# Altium schematic symbol library Thermistor - NTC.SchLib: 283 symbols (part 5 of 5)
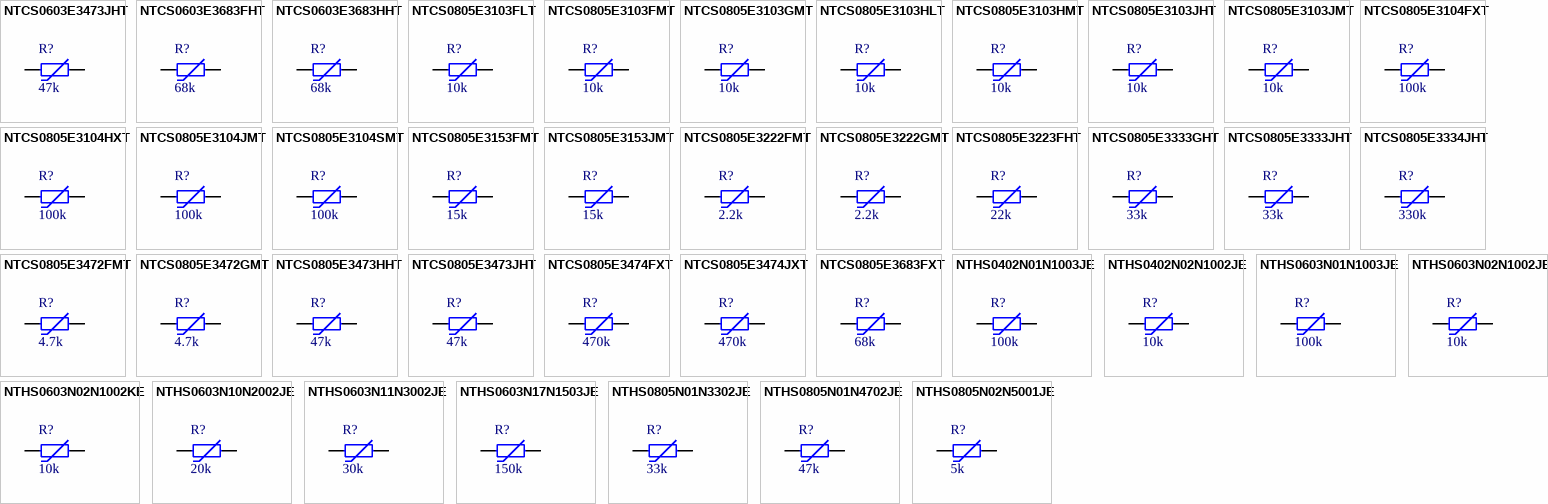
[diagram p11: symbols NTCS0603E3473JHT to NTHS0805N02N5001JE]

## NTCS0805E3223FHT
designator R?  Resistance in Ohms @ 25C: 22k
THERMISTOR NTC 22K OHM SMD 0805; Part Number: NTCS0805E3223FHT; Manufacturer: Vishay BC Components; TemperatureRange: -40C ~ 150C; Resistance Tolerance: 1%; B25/85: 3800K; Power - Max: 210mW; Value: 22k; PartId: 16721; Supplier 1: Digi-Key; Supplier Part Number 1: BC2571TR-ND; ComponentLink1Description: Datasheet; ComponentLink1URL: http://www.vishay.com/docs/29044/ntcs0805e3t.pdf; ComponentLink2Description: Digi-Key Listing; ComponentLink2URL: https://www.digikey.com/product-detail/en/vishay-bc-components/NTCS0805E3223FHT/BC2571TR-ND/2237380; Price: 0.3007; B Value Tolerance: 1%; Device Package: 0805 (2012 Metric)
footprint NTC 0805/2012
pins: 1, 2

## NTCS0805E3333GHT
designator R?  Resistance in Ohms @ 25C: 33k
THERMISTOR NTC 33K OHM SMD 0805; Part Number: NTCS0805E3333GHT; Manufacturer: Vishay BC Components; TemperatureRange: -40C ~ 150C; Resistance Tolerance: 2%; B Value Tolerance: 1%; B25/85: 3920K; Power - Max: 210mW; Value: 33k; PartId: 16719; Supplier 1: Digi-Key; Supplier Part Number 1: BC2572TR-ND; ComponentLink1Description: Datasheet; ComponentLink1URL: http://www.vishay.com/docs/29044/ntcs0805e3t.pdf; ComponentLink2Description: Digi-Key Listing; ComponentLink2URL: https://www.digikey.com/product-detail/en/vishay-bc-components/NTCS0805E3333GHT/BC2572TR-ND/2237381; Price: 0.3613; Device Package: 0805 (2012 Metric)
footprint NTC 0805/2012
pins: 1, 2

## NTCS0805E3333JHT
designator R?  Resistance in Ohms @ 25C: 33k
THERMISTOR NTC 33K OHM SMD 0805; Part Number: NTCS0805E3333JHT; Manufacturer: Vishay BC Components; TemperatureRange: -40C ~ 150C; Resistance Tolerance: 5%; B Value Tolerance: 1%; B25/85: 3920K; Power - Max: 210mW; Value: 33k; PartId: 16712; Supplier 1: Digi-Key; Supplier Part Number 1: BC2574TR-ND; ComponentLink1Description: Datasheet; ComponentLink1URL: http://www.vishay.com/docs/29044/ntcs0805e3t.pdf; ComponentLink2Description: Digi-Key Listing; ComponentLink2URL: https://www.digikey.com/product-detail/en/vishay-bc-components/NTCS0805E3333JHT/BC2574TR-ND/774005; Price: 0.1398; Device Package: 0805 (2012 Metric)
footprint NTC 0805/2012
pins: 1, 2

## NTCS0805E3334JHT
designator R?  Resistance in Ohms @ 25C: 330k
THERMISTOR NTC 330K OHM SMD 0805; Part Number: NTCS0805E3334JHT; Manufacturer: Vishay BC Components; TemperatureRange: -40C ~ 150C; Resistance Tolerance: 5%; B Value Tolerance: 1%; B25/85: 3930K; Power - Max: 210mW; Value: 330k; PartId: 16733; Supplier 1: Digi-Key; Supplier Part Number 1: BC2575TR-ND; ComponentLink1Description: Datasheet; ComponentLink1URL: http://www.vishay.com/docs/29044/ntcs0805e3t.pdf; ComponentLink2Description: Digi-Key Listing; ComponentLink2URL: https://www.digikey.com/product-detail/en/vishay-bc-components/NTCS0805E3334JHT/BC2575TR-ND/2237383; Price: 0.1398; Device Package: 0805 (2012 Metric)
footprint NTC 0805/2012
pins: 1, 2

## NTCS0805E3472FMT
designator R?  Resistance in Ohms @ 25C: 4.7k
THERMISTOR NTC 4.7K OHM SMD 0805; Part Number: NTCS0805E3472FMT; Manufacturer: Vishay BC Components; TemperatureRange: -40C ~ 150C; Resistance Tolerance: 1%; B25/85: 3500K; Power - Max: 210mW; Value: 4.7k; PartId: 16752; Supplier 1: Digi-Key; Supplier Part Number 1: BC2576TR-ND; ComponentLink1Description: Datasheet; ComponentLink1URL: http://www.vishay.com/docs/29044/ntcs0805e3t.pdf; ComponentLink2Description: Digi-Key Listing; ComponentLink2URL: https://www.digikey.com/product-detail/en/vishay-bc-components/NTCS0805E3472FMT/BC2576TR-ND/2237384; Price: 0.3007; B Value Tolerance: 1%; Device Package: 0805 (2012 Metric)
footprint NTC 0805/2012
pins: 1, 2

## NTCS0805E3472GMT
designator R?  Resistance in Ohms @ 25C: 4.7k
THERMISTOR NTC 4.7K OHM SMD 0805; Part Number: NTCS0805E3472GMT; Manufacturer: Vishay BC Components; TemperatureRange: -40C ~ 150C; Resistance Tolerance: 2%; B Value Tolerance: 1%; B25/85: 3500K; Power - Max: 210mW; Value: 4.7k; PartId: 16749; Supplier 1: Digi-Key; Supplier Part Number 1: BC2577TR-ND; ComponentLink1Description: Datasheet; ComponentLink1URL: http://www.vishay.com/docs/29044/ntcs0805e3t.pdf; ComponentLink2Description: Digi-Key Listing; ComponentLink2URL: https://www.digikey.com/product-detail/en/vishay-bc-components/NTCS0805E3472GMT/BC2577TR-ND/2237385; Price: 0.2696; Device Package: 0805 (2012 Metric)
footprint NTC 0805/2012
pins: 1, 2

## NTCS0805E3473HHT
designator R?  Resistance in Ohms @ 25C: 47k
THERMISTOR NTC 47K OHM SMD 0805; Part Number: NTCS0805E3473HHT; Manufacturer: Vishay BC Components; TemperatureRange: -40C ~ 150C; Resistance Tolerance: 3%; B Value Tolerance: 1%; B25/85: 3960K; Power - Max: 210mW; Value: 47k; PartId: 16711; Supplier 1: Digi-Key; Supplier Part Number 1: BC2579TR-ND; ComponentLink1Description: Datasheet; ComponentLink1URL: http://www.vishay.com/docs/29044/ntcs0805e3t.pdf; ComponentLink2Description: Digi-Key Listing; ComponentLink2URL: https://www.digikey.com/product-detail/en/vishay-bc-components/NTCS0805E3473HHT/BC2579TR-ND/2237387; Price: 0.1798; Device Package: 0805 (2012 Metric)
footprint NTC 0805/2012
pins: 1, 2

## NTCS0805E3473JHT
designator R?  Resistance in Ohms @ 25C: 47k
THERMISTOR NTC 47K OHM 0805 SMD; Part Number: NTCS0805E3473JHT; Manufacturer: Vishay BC Components; TemperatureRange: -40C ~ 150C; Resistance Tolerance: 5%; B Value Tolerance: 1%; B25/85: 3960K; Power - Max: 210mW; Value: 47k; PartId: 16734; Supplier 1: Digi-Key; Supplier Part Number 1: BC2297TR-ND; ComponentLink1Description: Datasheet; ComponentLink1URL: http://www.vishay.com/docs/29044/ntcs0805e3t.pdf; ComponentLink2Description: Digi-Key Listing; ComponentLink2URL: https://www.digikey.com/product-detail/en/vishay-bc-components/NTCS0805E3473JHT/BC2297TR-ND/769407; Price: 0.1398; Device Package: 0805 (2012 Metric)
footprint NTC 0805/2012
pins: 1, 2

## NTCS0805E3474FXT
designator R?  Resistance in Ohms @ 25C: 470k
THERMISTOR NTC 470K OHM SMD 0805; Part Number: NTCS0805E3474FXT; Manufacturer: Vishay BC Components; TemperatureRange: -40C ~ 150C; Resistance Tolerance: 1%; B25/85: 4025K; Power - Max: 210mW; Value: 470k; PartId: 16710; Supplier 1: Digi-Key; Supplier Part Number 1: BC2580TR-ND; ComponentLink1Description: Datasheet; ComponentLink1URL: http://www.vishay.com/docs/29044/ntcs0805e3t.pdf; ComponentLink2Description: Digi-Key Listing; ComponentLink2URL: https://www.digikey.com/product-detail/en/vishay-bc-components/NTCS0805E3474FXT/BC2580TR-ND/2237388; Price: 0.3007; B Value Tolerance: 1%; Device Package: 0805 (2012 Metric)
footprint NTC 0805/2012
pins: 1, 2

## NTCS0805E3474JXT
designator R?  Resistance in Ohms @ 25C: 470k
THERMISTOR NTC 470K OHM SMD 0805; Part Number: NTCS0805E3474JXT; Manufacturer: Vishay BC Components; TemperatureRange: -40C ~ 150C; Resistance Tolerance: 5%; B Value Tolerance: 1%; B25/85: 4025K; Power - Max: 210mW; Value: 470k; PartId: 16751; Supplier 1: Digi-Key; Supplier Part Number 1: BC2581TR-ND; ComponentLink1Description: Datasheet; ComponentLink1URL: http://www.vishay.com/docs/29044/ntcs0805e3t.pdf; ComponentLink2Description: Digi-Key Listing; ComponentLink2URL: https://www.digikey.com/product-detail/en/vishay-bc-components/NTCS0805E3474JXT/BC2581TR-ND/2237389; Price: 0.1398; Device Package: 0805 (2012 Metric)
footprint NTC 0805/2012
pins: 1, 2

## NTCS0805E3683FXT
designator R?  Resistance in Ohms @ 25C: 68k
THERMISTOR NTC 68K OHM SMD 0805; Part Number: NTCS0805E3683FXT; Manufacturer: Vishay BC Components; TemperatureRange: -40C ~ 150C; Resistance Tolerance: 1%; B25/85: 4100K; Power - Max: 210mW; Value: 68k; PartId: 16727; Supplier 1: Digi-Key; Supplier Part Number 1: BC2582TR-ND; ComponentLink1Description: Datasheet; ComponentLink1URL: http://www.vishay.com/docs/29044/ntcs0805e3t.pdf; ComponentLink2Description: Digi-Key Listing; ComponentLink2URL: https://www.digikey.com/product-detail/en/vishay-bc-components/NTCS0805E3683FXT/BC2582TR-ND/2237390; Price: 0.403; B Value Tolerance: 1%; Device Package: 0805 (2012 Metric)
footprint NTC 0805/2012
pins: 1, 2

## NTHS0402N01N1003JE
designator R?  Resistance in Ohms @ 25C: 100k
THERMISTOR NTC 100K OHM 5% 0402; Part Number: NTHS0402N01N1003JE; Manufacturer: Vishay Dale; B Value Tolerance: 3%; B25/75: 3964K; Value: 100k; PartId: 16573; Supplier 1: Digi-Key; Supplier Part Number 1: 541-1094-2-ND; ComponentLink1Description: Datasheet; ComponentLink1URL: http://www.vishay.com/docs/33008/nths.pdf; ComponentLink2Description: Digi-Key Listing; ComponentLink2URL: https://www.digikey.com/product-detail/en/vishay-dale/NTHS0402N01N1003JE/541-1094-2-ND/1427049; Price: 0.325; Resistance Tolerance: 5%; Device Package: 0402 (1005 Metric)
footprint FER 0402/1005
pins: 1, 2

## NTHS0402N02N1002JE
designator R?  Resistance in Ohms @ 25C: 10k
THERMISTOR NTC 10K OHM 5% 0402; Part Number: NTHS0402N02N1002JE; Manufacturer: Vishay Dale; B Value Tolerance: 3%; B25/75: 3477K; Value: 10k; PartId: 16572; Supplier 1: Digi-Key; Supplier Part Number 1: 541-1096-2-ND; ComponentLink1Description: Datasheet; ComponentLink1URL: http://www.vishay.com/docs/33008/nths.pdf; ComponentLink2Description: Digi-Key Listing; ComponentLink2URL: https://www.digikey.com/product-detail/en/vishay-dale/NTHS0402N02N1002JE/541-1096-2-ND/1427047; Price: 0.325; Resistance Tolerance: 5%; Device Package: 0402 (1005 Metric)
footprint FER 0402/1005
pins: 1, 2

## NTHS0603N01N1003JE
designator R?  Resistance in Ohms @ 25C: 100k
THERMISTOR NTC 100K OHM 5% 0603; Part Number: NTHS0603N01N1003JE; Manufacturer: Vishay Dale; B Value Tolerance: 3%; B25/75: 3964K; Value: 100k; PartId: 16624; Supplier 1: Digi-Key; Supplier Part Number 1: 541-1103-2-ND; ComponentLink1Description: Datasheet; ComponentLink1URL: http://www.vishay.com/docs/33008/nths.pdf; ComponentLink2Description: Digi-Key Listing; ComponentLink2URL: https://www.digikey.com/product-detail/en/vishay-dale/NTHS0603N01N1003JE/541-1103-2-ND/1427043; Price: 0.325; Resistance Tolerance: 5%; Device Package: 0603 (1608 Metric)
footprint FER 0603/1608
pins: 1, 2

## NTHS0603N02N1002JE
designator R?  Resistance in Ohms @ 25C: 10k
THERMISTOR NTC 10K OHM 5% 0603; Part Number: NTHS0603N02N1002JE; Manufacturer: Vishay Dale; B Value Tolerance: 3%; B25/75: 3477K; Value: 10k; PartId: 16627; Supplier 1: Digi-Key; Supplier Part Number 1: 541-1107-2-ND; ComponentLink1Description: Datasheet; ComponentLink1URL: http://www.vishay.com/docs/33008/nths.pdf; ComponentLink2Description: Digi-Key Listing; ComponentLink2URL: https://www.digikey.com/product-detail/en/vishay-dale/NTHS0603N02N1002JE/541-1107-2-ND/1427038; Price: 0.325; Resistance Tolerance: 5%; Device Package: 0603 (1608 Metric)
footprint FER 0603/1608
pins: 1, 2

## NTHS0603N02N1002KE
designator R?  Resistance in Ohms @ 25C: 10k
THERMISTOR NTC 10K OHM 10% 0603; Part Number: NTHS0603N02N1002KE; Manufacturer: Vishay Dale; B Value Tolerance: 3%; B25/75: 3500K; Value: 10k; PartId: 16639; Supplier 1: Digi-Key; Supplier Part Number 1: 541-1108-2-ND; ComponentLink1Description: Datasheet; ComponentLink1URL: http://www.vishay.com/docs/33008/nths.pdf; ComponentLink2Description: Digi-Key Listing; ComponentLink2URL: https://www.digikey.com/product-detail/en/vishay-dale/NTHS0603N02N1002KE/541-1108-2-ND/1869355; Price: 0.3156; Resistance Tolerance: 10%; Device Package: 0603 (1608 Metric)
footprint FER 0603/1608
pins: 1, 2

## NTHS0603N10N2002JE
designator R?  Resistance in Ohms @ 25C: 20k
THERMISTOR NTC 20K OHM 5% 0603; Part Number: NTHS0603N10N2002JE; Manufacturer: Vishay Dale; B Value Tolerance: 3%; B25/75: 3500K; Value: 20k; PartId: 16696; Supplier 1: Digi-Key; Supplier Part Number 1: 541-1116-2-ND; ComponentLink1Description: Datasheet; ComponentLink1URL: http://www.vishay.com/docs/33008/nths.pdf; ComponentLink2Description: Digi-Key Listing; ComponentLink2URL: https://www.digikey.com/product-detail/en/vishay-dale/NTHS0603N10N2002JE/541-1116-2-ND/1869359; Price: 0.325; Resistance Tolerance: 5%; Device Package: 0603 (1608 Metric)
footprint FER 0603/1608
pins: 1, 2

## NTHS0603N11N3002JE
designator R?  Resistance in Ohms @ 25C: 30k
THERMISTOR NTC 30K OHM 5% 0603; Part Number: NTHS0603N11N3002JE; Manufacturer: Vishay Dale; B Value Tolerance: 3%; B25/75: 3700K; Value: 30k; PartId: 16697; Supplier 1: Digi-Key; Supplier Part Number 1: 541-1118-2-ND; ComponentLink1Description: Datasheet; ComponentLink1URL: http://www.vishay.com/docs/33008/nths.pdf; ComponentLink2Description: Digi-Key Listing; ComponentLink2URL: https://www.digikey.com/product-detail/en/vishay-dale/NTHS0603N11N3002JE/541-1118-2-ND/1869361; Price: 0.325; Resistance Tolerance: 5%; Device Package: 0603 (1608 Metric)
footprint FER 0603/1608
pins: 1, 2

## NTHS0603N17N1503JE
designator R?  Resistance in Ohms @ 25C: 150k
THERMISTOR NTC 150K OHM 5% 0603; Part Number: NTHS0603N17N1503JE; Manufacturer: Vishay Dale; B Value Tolerance: 3%; B25/75: 4064K; Value: 150k; PartId: 16642; Supplier 1: Digi-Key; Supplier Part Number 1: 541-1119-2-ND; ComponentLink1Description: Datasheet; ComponentLink1URL: http://www.vishay.com/docs/33008/nths.pdf; ComponentLink2Description: Digi-Key Listing; ComponentLink2URL: https://www.digikey.com/product-detail/en/vishay-dale/NTHS0603N17N1503JE/541-1119-2-ND/1427031; Price: 0.325; Resistance Tolerance: 5%; Device Package: 0603 (1608 Metric)
footprint FER 0603/1608
pins: 1, 2

## NTHS0805N01N3302JE
designator R?  Resistance in Ohms @ 25C: 33k
THERMISTOR NTC 33K OHM 5% 0805; Part Number: NTHS0805N01N3302JE; Manufacturer: Vishay Dale; B Value Tolerance: 3%; B25/75: 3890K; Value: 33k; PartId: 16760; Supplier 1: Digi-Key; Supplier Part Number 1: 541-1121-2-ND; ComponentLink1Description: Datasheet; ComponentLink1URL: http://www.vishay.com/docs/33008/nths.pdf; ComponentLink2Description: Digi-Key Listing; ComponentLink2URL: https://www.digikey.com/product-detail/en/vishay-dale/NTHS0805N01N3302JE/541-1121-2-ND/1427027; Price: 0.325; Resistance Tolerance: 5%; Device Package: 0805 (2012 Metric)
footprint NTC 0805/2012
pins: 1, 2

## NTHS0805N01N4702JE
designator R?  Resistance in Ohms @ 25C: 47k
THERMISTOR NTC 47K OHM 5% 0805; Part Number: NTHS0805N01N4702JE; Manufacturer: Vishay Dale; B Value Tolerance: 3%; B25/75: 3890K; Value: 47k; PartId: 16748; Supplier 1: Digi-Key; Supplier Part Number 1: 541-1122-2-ND; ComponentLink1Description: Datasheet; ComponentLink1URL: http://www.vishay.com/docs/33008/nths.pdf; ComponentLink2Description: Digi-Key Listing; ComponentLink2URL: https://www.digikey.com/product-detail/en/vishay-dale/NTHS0805N01N4702JE/541-1122-2-ND/1427028; Price: 0.325; Resistance Tolerance: 5%; Device Package: 0805 (2012 Metric)
footprint NTC 0805/2012
pins: 1, 2

## NTHS0805N02N5001JE
designator R?  Resistance in Ohms @ 25C: 5k
THERMISTOR NTC 5.0K OHM 5% 0805; Part Number: NTHS0805N02N5001JE; Manufacturer: Vishay Dale; Value: 5k; B Value Tolerance: 3%; B25/75: 3181K; PartId: 16762; Supplier 1: Digi-Key; Supplier Part Number 1: 541-1128-2-ND; ComponentLink1Description: Datasheet; ComponentLink1URL: http://www.vishay.com/docs/33008/nths.pdf; ComponentLink2Description: Digi-Key Listing; ComponentLink2URL: https://www.digikey.com/product-detail/en/vishay-dale/NTHS0805N02N5001JE/541-1128-2-ND/1427024; Price: 0.325; Resistance Tolerance: 5%; Device Package: 0805 (2012 Metric)
footprint NTC 0805/2012
pins: 1, 2

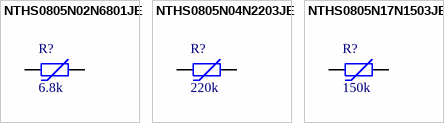
[diagram p7: symbols NTHS0805N02N6801JE to NTHS0805N17N1503JE]

## NTHS0805N02N6801JE
designator R?  Resistance in Ohms @ 25C: 6.8k
THERMISTOR NTC 6.8K OHM 5% 0805; Part Number: NTHS0805N02N6801JE; Manufacturer: Vishay Dale; B Value Tolerance: 3%; B25/75: 3890K; Value: 6.8k; PartId: 16715; Supplier 1: Digi-Key; Supplier Part Number 1: 541-1130-2-ND; ComponentLink1Description: Datasheet; ComponentLink1URL: http://www.vishay.com/docs/33008/nths.pdf; ComponentLink2Description: Digi-Key Listing; ComponentLink2URL: https://www.digikey.com/product-detail/en/vishay-dale/NTHS0805N02N6801JE/541-1130-2-ND/1427025; Price: 0.325; Resistance Tolerance: 5%; Device Package: 0805 (2012 Metric)
footprint NTC 0805/2012
pins: 1, 2

## NTHS0805N04N2203JE
designator R?  Resistance in Ohms @ 25C: 220k
THERMISTOR NTC 220K OHM 5% 0805; Part Number: NTHS0805N04N2203JE; Manufacturer: Vishay Dale; B Value Tolerance: 3%; B25/75: 4247K; Value: 220k; PartId: 16725; Supplier 1: Digi-Key; Supplier Part Number 1: 541-1135-2-ND; ComponentLink1Description: Datasheet; ComponentLink1URL: http://www.vishay.com/docs/33008/nths.pdf; ComponentLink2Description: Digi-Key Listing; ComponentLink2URL: https://www.digikey.com/product-detail/en/vishay-dale/NTHS0805N04N2203JE/541-1135-2-ND/1427021; Price: 0.325; Resistance Tolerance: 5%; Device Package: 0805 (2012 Metric)
footprint NTC 0805/2012
pins: 1, 2

## NTHS0805N17N1503JE
designator R?  Resistance in Ohms @ 25C: 150k
THERMISTOR NTC 150K OHM 5% 0805; Part Number: NTHS0805N17N1503JE; Manufacturer: Vishay Dale; B Value Tolerance: 3%; B25/75: 4064K; Value: 150k; PartId: 16761; Supplier 1: Digi-Key; Supplier Part Number 1: 541-1141-2-ND; ComponentLink1Description: Datasheet; ComponentLink1URL: http://www.vishay.com/docs/33008/nths.pdf; ComponentLink2Description: Digi-Key Listing; ComponentLink2URL: https://www.digikey.com/product-detail/en/vishay-dale/NTHS0805N17N1503JE/541-1141-2-ND/1427019; Price: 0.325; Resistance Tolerance: 5%; Device Package: 0805 (2012 Metric)
footprint NTC 0805/2012
pins: 1, 2